# EAGLE library part CPU_MODULE (library Modules)
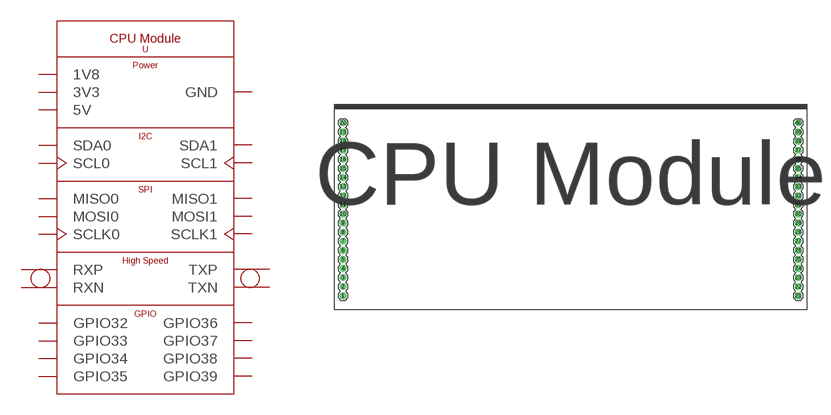
[diagram p1: symbol with the pads of CPU_MODULE; footprint CPU_MODULE]

Designator prefix -

## CPU_MODULE  [CPU_MODULE]
1  GND  pwr
2  GND  pwr
3  GND  pwr
4  TXN  out
5  TXP  out
6  GND  pwr
7  GND  pwr
8  RXN  in
9  RXP  in
10  GND  pwr
11  GND  pwr
12  SCL1  out
13  SDA0
14  GND  pwr
15  SCL0  out
16  SDA1
17  GND  pwr
18  5V  pwr
19  1V8  pwr
20  3V3  pwr
21  GND  pwr
22  GPIO39
23  GPIO38
24  GND  pwr
25  GPIO37
26  GPIO36
27  GND  pwr
28  GPIO35
29  GPIO34
30  GND  pwr
31  GPIO33
32  GPIO32
33  GND  pwr
34  SCLK1  out
35  MISO1  in
36  MOSI1  out
37  GND  pwr
38  SCLK0  out
39  MISO0  in
40  MOSI0  out

## Footprint CPU_MODULE (pad centres in mm)
drill 1.016 pad 1.88: 1 -63.5,-20.32; 2 -63.5,-17.78; 3 -63.5,-15.24; 4 -63.5,-12.7; 5 -63.5,-10.16; 6 -63.5,-7.62; 7 -63.5,-5.08; 8 -63.5,-2.54; 9 -63.5,0; 10 -63.5,2.54; 11 -63.5,5.08; 12 -63.5,7.62; 13 -63.5,10.16; 14 -63.5,12.7; 15 -63.5,15.24; 16 -63.5,17.78; 17 -63.5,20.32; 18 -63.5,22.86; 19 -63.5,25.4; 20 -63.5,27.94; 21 63.5,-20.32; 22 63.5,-17.78; 23 63.5,-15.24; 24 63.5,-12.7; 25 63.5,-10.16; 26 63.5,-7.62; 27 63.5,-5.08; 28 63.5,-2.54; 29 63.5,0; 30 63.5,2.54; 31 63.5,5.08; 32 63.5,7.62; 33 63.5,10.16; 34 63.5,12.7; 35 63.5,15.24; 36 63.5,17.78; 37 63.5,20.32; 38 63.5,22.86; 39 63.5,25.4; 40 63.5,27.94